# Altium footprint library PcbLib1.PcbLib: 1 footprints
Each footprint in its own frame and in the unit in brackets; x right, y up, seen from the top. Pads: shape width x height; smd on the part's side, far side on the other; paste and mask are expansions set on the pad; w line width, h text height; cw(c..) or ccw(c..) is an arc to the next point about the centre after c.
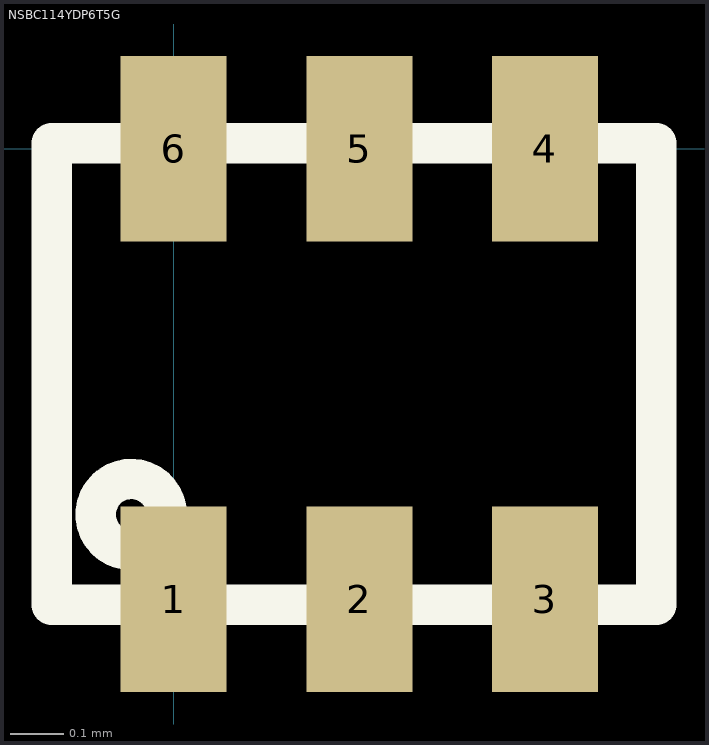
[diagram p0: the footprint, top view; thin cyan lines are the x and y axes]

## NSBC114YDP6T5G [mm]
pads (6):
  rect 0.2x0.35 smd mask+0.03: 1(0,-0.85) 2(0.35,-0.85) 3(0.7,-0.85) 4(0.7,0) 5(0.35,0) 6(0,0)
Top Overlay:
  circle w0.076: c-0.08,-0.69 r0.067
  lines w0.076: -0.23,-0.86 0.91,-0.86 0.91,0.01 -0.23,0.01 -0.23,0 -0.23,-0.86
3D body: height 0.25, standoff 0, extent -0.21,-0.84 0.89,0